# Altium footprint library DRV8818 Stepper Driver.PcbLib: 1 footprints
Each footprint in its own frame and in the unit in brackets; x right, y up, seen from the top. Pads: shape width x height; smd on the part's side, far side on the other; paste and mask are expansions set on the pad; w line width, h text height; cw(c..) or ccw(c..) is an arc to the next point about the centre after c.
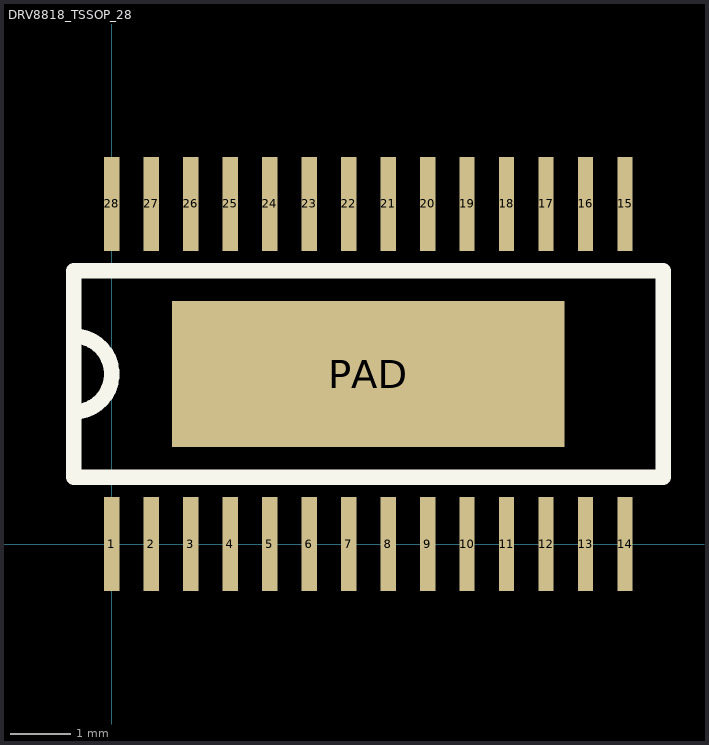
[diagram p0: the footprint, top view; thin cyan lines are the x and y axes]

## DRV8818_TSSOP_28 [mm] "Stepper Motor Driver"
height 1.2
pads (29):
  rect 0.25x1.55 smd: 1(0,0) 2(0.65,0) 3(1.3,0) 4(1.95,0) 5(2.6,0) 6(3.25,0) 7(3.9,0) 8(4.55,0) 9(5.2,0) 10(5.85,0) 11(6.5,0) 12(7.15,0) 13(7.8,0) 14(8.45,0) 15(8.45,5.6) 16(7.8,5.6) 17(7.15,5.6) 18(6.5,5.6) 19(5.85,5.6) 20(5.2,5.6) 21(4.55,5.6) 22(3.9,5.6) 23(3.25,5.6) 24(2.6,5.6) 25(1.95,5.6) 26(1.3,5.6) 27(0.65,5.6) 28(0,5.6)
  rect 6.46x2.4 smd: PAD(4.225,2.8)
Top Overlay:
  lines w0.254: -0.625,2.175 ccw(c-0.625,2.8) -0.625,3.425 ; -0.625,1.1 9.075,1.1 9.075,4.5 -0.625,4.5 -0.625,1.1
3D body: height 0.92, standoff -0.07, extent -0.625,-0.4 9.075,6